# Altium schematic symbol library LUCRARE_LICENTA_SCHEMATIC.SchLib: 2 symbols
Pins are listed as number, name and electrical type; pins without a type are passive.

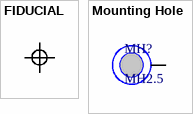
[diagram p0: symbols FIDUCIAL to Mounting Hole]

## FIDUCIAL
designator F?  (value not drawn)  (no BOM)
ComponentLink2Description: *; ComponentLink2URL: *; EKS: *; Manufacturer: *; ManufacturerPN: *; ComponentLink1Description: *; ComponentLink1URL: *
footprint FIDUCIAL

## Mounting Hole
designator MH?, comment MH2.5
footprint Mounting Hole
pins: 1